# Altium footprint library Resistors THD.PcbLib: 108 footprints (part 7 of 7)
Each footprint in its own frame and in the unit in brackets; x right, y up, seen from the top. Pads: shape width x height; smd on the part's side, far side on the other; paste and mask are expansions set on the pad; w line width, h text height; cw(c..) or ccw(c..) is an arc to the next point about the centre after c.
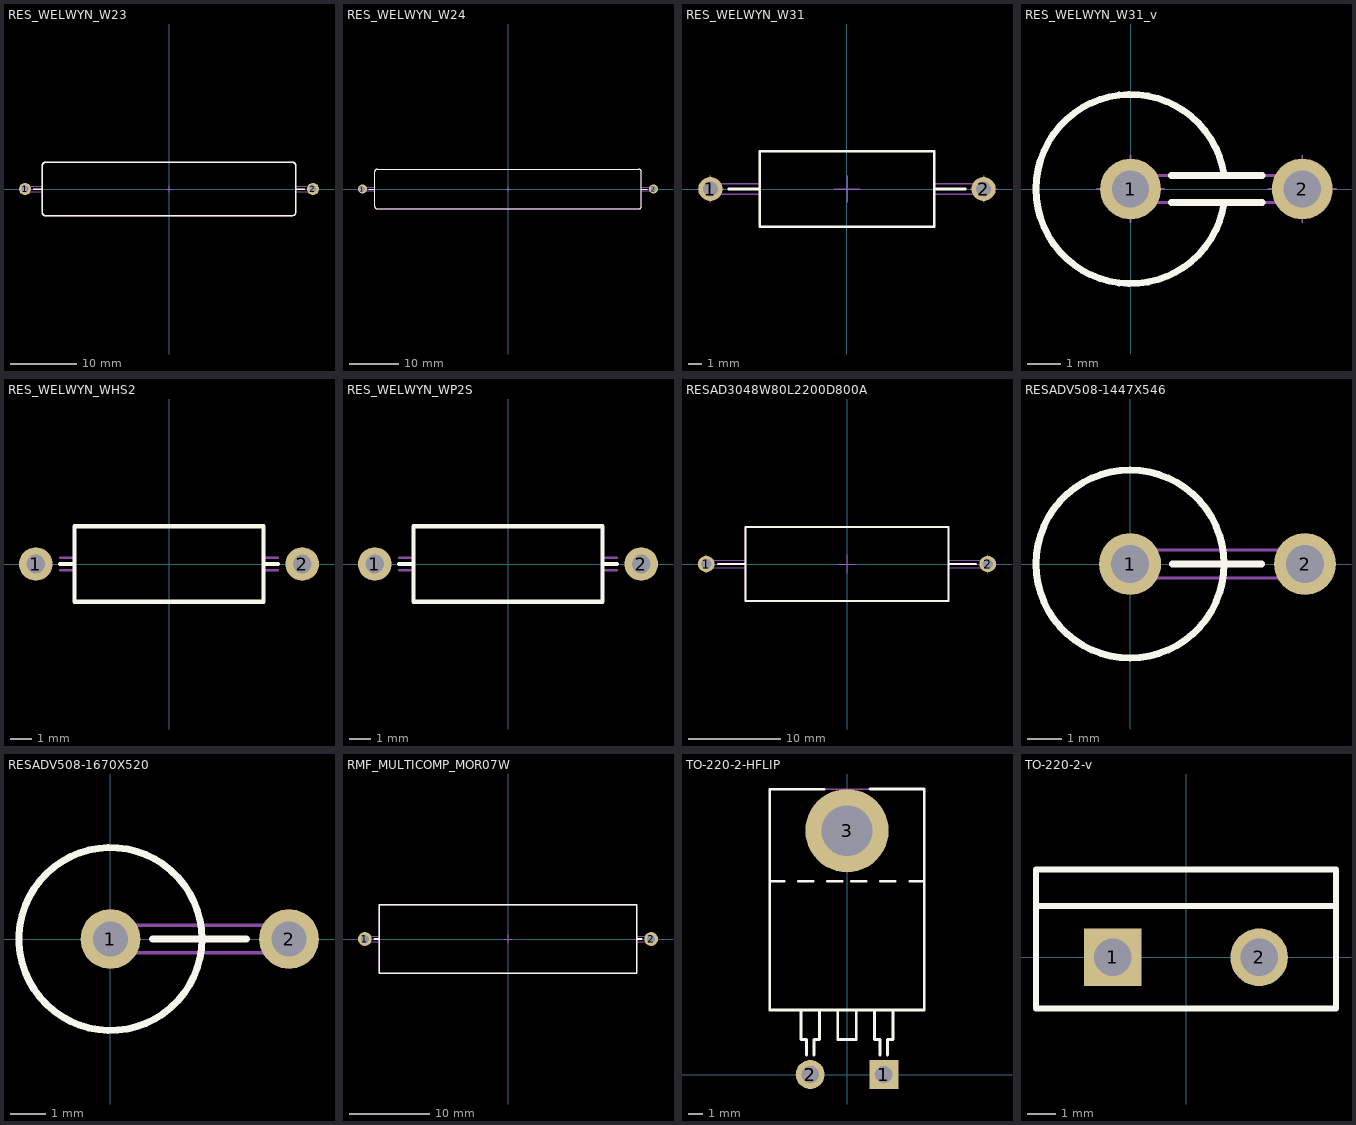
[diagram p6: the footprints below, top view; thin cyan lines are the x and y axes]

## RES_WELWYN_W23 [mm] "Resistor, Axial, Pad spacing 43.18mm - Body Lengh 38mm X Body Diameter 8mm"
height 8
pads (2):
  round 1.8 hole 1.1: 1(-21.59,0) 2(21.59,0)
Top Overlay:
  lines w0.2: -20.353,0 -19,0 ; 19,0 20.353,0 ; -19,-3.5 ccw(c-18.5,-3.5) -18.5,-4 18.5,-4 ccw(c18.5,-3.5) 19,-3.5 19,3.5 ccw(c18.5,3.5) 18.5,4 -18.5,4 ccw(c-18.5,3.5) -19,3.5 -19,-3.5
Mechanical 8:
  lines w0.1: -21.59,0 -21.59,0.5 -21.59,0 ; -21.59,0 -21.09,0 -21.59,0 ; -21.59,0 -21.59,-0.5 -21.59,0 ; -21.59,0 -22.09,0 -21.59,0 ; 0,0 0,0.5 0,0 ; 0,0 0.5,0 0,0 ; 0,0 0,-0.5 0,0 ; 0,0 -0.5,0 0,0 ; 21.59,0 21.59,0.5 21.59,0 ; 21.59,0 22.09,0 21.59,0 ; 21.59,0 21.59,-0.5 21.59,0 ; 21.59,0 21.09,0 21.59,0
Mechanical 14:
  lines w0.1: -19,-0.4 -21.59,-0.4 cw(c-21.59,0) -21.59,0.4 -19,0.4 ; 19,-0.4 21.59,-0.4 ccw(c21.59,0) 21.59,0.4 19,0.4 ; -19,-3.5 ccw(c-18.5,-3.5) -18.5,-4 18.5,-4 ccw(c18.5,-3.5) 19,-3.5 19,3.5 ccw(c18.5,3.5) 18.5,4 -18.5,4 ccw(c-18.5,3.5) -19,3.5 -19,-3.5
3D body "RES_WELWYN_W23.stp": height 8, standoff -3.6, extent -21.99,-4 21.99,4

## RES_WELWYN_W24 [mm] "Resistor, Axial, Pad spacing 58.42mm - Body Lengh 53.5mm X Body Diameter 8mm"
height 8
pads (2):
  round 1.8 hole 1.1: 1(-29.21,0) 2(29.21,0)
Top Overlay:
  lines w0.2: -27.973,0 -26.75,0 ; 26.75,0 27.973,0 ; -26.75,-3.5 ccw(c-26.25,-3.5) -26.25,-4 26.25,-4 ccw(c26.25,-3.5) 26.75,-3.5 26.75,3.5 ccw(c26.25,3.5) 26.25,4 -26.25,4 ccw(c-26.25,3.5) -26.75,3.5 -26.75,-3.5
Mechanical 8:
  lines w0.1: -29.21,0 -29.71,0 -29.21,0 ; -29.21,0 -29.21,-0.5 -29.21,0 ; -29.21,0 -28.71,0 -29.21,0 ; -29.21,0 -29.21,0.5 -29.21,0 ; 0,0 -0.5,0 0,0 ; 0,0 0,-0.5 0,0 ; 0,0 0.5,0 0,0 ; 0,0 0,0.5 0,0 ; 29.21,0 28.71,0 29.21,0 ; 29.21,0 29.21,-0.5 29.21,0 ; 29.21,0 29.71,0 29.21,0 ; 29.21,0 29.21,0.5 29.21,0
Mechanical 14:
  lines w0.1: -26.75,-0.4 -29.21,-0.4 cw(c-29.21,0) -29.21,0.4 -26.75,0.4 ; 26.75,-0.4 29.21,-0.4 ccw(c29.21,0) 29.21,0.4 26.75,0.4 ; -26.75,-3.5 ccw(c-26.25,-3.5) -26.25,-4 26.25,-4 ccw(c26.25,-3.5) 26.75,-3.5 26.75,3.5 ccw(c26.25,3.5) 26.25,4 -26.25,4 ccw(c-26.25,3.5) -26.75,3.5 -26.75,-3.5
3D body "RES_WELWYN_W24.stp": height 8, standoff -3.6, extent -29.61,-4 29.61,4

## RES_WELWYN_W31 [mm] "Resistor, Axial, Leads spacing 20.32mm, Lead Dia. 0.8, Body Lengh 13mm, Diameter 5.6mm"
height 5.6
pads (2):
  round 1.8 hole 1.1: 1(-10.16,0) 2(10.16,0)
Top Overlay:
  lines w0.2: -8.8,0 -6.5,0 ; 6.5,0 8.8,0 ; -6.5,-2.8 -6.5,2.8 6.5,2.8 6.5,-2.8 -6.5,-2.8
Mechanical 8:
  lines w0.1: -11.16,0 -10.16,0 ; -10.16,-1 -10.16,0 ; -10.16,1 -10.16,0 ; -9.16,0 -10.16,0 ; -1,0 0,0 ; 0,-1 0,0 ; 0,1 0,0 ; 1,0 0,0 ; 9.16,0 10.16,0 ; 10.16,-1 10.16,0 ; 10.16,1 10.16,0 ; 11.16,0 10.16,0
Mechanical 14:
  lines w0.1: -6.5,-0.4 -10.16,-0.4 cw(c-10.16,0) -10.16,0.4 -6.5,0.4 ; 6.5,-0.4 10.16,-0.4 ccw(c10.16,0) 10.16,0.4 6.5,0.4 ; -6.5,-2.8 -6.5,2.8 6.5,2.8 6.5,-2.8 -6.5,-2.8
3D body "RES_WELWYN_W31.stp": height 5.6, standoff -3.8, extent -10.59,-2.8 10.59,2.8

## RES_WELWYN_W31_v [mm] "Resistor, Axial, Leads spacing 5.08mm, Lead Dia. 0.8, Body Lengh 13mm, Diameter 5.6mm"
height 17.2
pads (2):
  round 1.8 hole 1.1: 1(0,0) 2(5.08,0)
Top Overlay:
  lines w0.2: 1.2,-0.4 3.9,-0.4 ; 1.2,0.4 3.9,0.4 ; 2.771,-0.4 cw(c0,0) 2.771,0.4
Mechanical 8:
  lines w0.05: -1,0 0,0 ; 0,-1 0,0 ; 0,1 0,0 ; 1,0 0,0 ; 4.08,0 5.08,0 ; 5.08,-1 5.08,0 ; 5.08,1 5.08,0 ; 6.08,0 5.08,0
Mechanical 14:
  lines w0.1: 2.771,-0.4 cw(c0,0) 2.771,0.4 ; 0,-0.4 cw(c0,0) 0,0.4 5.08,0.4 cw(c5.08,0) 5.08,-0.4 0,-0.4
3D body "RES_WELWYN_W31_v.stp": height 17.2, standoff -3.7, extent -2.8,-2.8 5.467,2.8

## RES_WELWYN_WHS2 [mm] "Resistor, Axial, Pad spacing 12.7 mm - Body Lengh 9mm X Body Diameter 3.6mm"
height 3.6
pads (2):
  round 1.6 hole 0.9: 1(-6.35,0) 2(6.35,0)
Top Overlay:
  lines w0.2: -5.2,0 -4.5,0 ; 4.5,0 5.2,0 ; -4.5,-1.8 4.5,-1.8 4.5,1.8 -4.5,1.8 -4.5,-1.8
Mechanical 14:
  lines w0.1: -5.2,-0.3 -4.5,-0.3 ; -5.2,0.3 -4.5,0.3 ; 4.5,-0.3 5.2,-0.3 ; 4.5,0.3 5.2,0.3 ; -4.5,-1.8 -4.5,1.8 4.5,1.8 4.5,-1.8 -4.5,-1.8
3D body "RES_WELWYN_WHS2.stp": height 3.6, standoff -3.6, extent -6.649,-1.8 6.65,1.8

## RES_WELWYN_WP2S [mm] "Resistor, Axial, Pad spacing 12.7 mm - Body Lengh 9mm X Body Diameter 3.6mm"
height 3.6
pads (2):
  round 1.6 hole 0.9: 1(-6.35,0) 2(6.35,0)
Top Overlay:
  lines w0.2: -5.2,0 -4.5,0 ; 4.5,0 5.2,0 ; -4.5,-1.8 4.5,-1.8 4.5,1.8 -4.5,1.8 -4.5,-1.8
Mechanical 14:
  lines w0.1: -5.2,-0.3 -4.5,-0.3 ; -5.2,0.3 -4.5,0.3 ; 4.5,-0.3 5.2,-0.3 ; 4.5,0.3 5.2,0.3 ; -4.5,-1.8 -4.5,1.8 4.5,1.8 4.5,-1.8 -4.5,-1.8
3D body "RES_WELWYN_WP2S.stp": height 3.6, standoff -3.6, extent -6.649,-1.8 6.65,1.8

## RESAD3048W80L2200D800A [mm] "Resistor, Axial, Leads spacing 30.48mm, Lead Dia. 0.8, Body Lengh 22mm, Diameter 8mm"
height 8
pads (2):
  round 1.8 hole 1.1: 1(-15.24,0) 2(15.24,0)
Top Overlay:
  lines w0.2: -14,0 -11,0 ; 11,0 14,0 ; -11,-4 -11,4 11,4 11,-4 -11,-4
Mechanical 8:
  lines w0.1: -16.24,0 -15.24,0 ; -15.24,-1 -15.24,0 ; -15.24,1 -15.24,0 ; -14.24,0 -15.24,0 ; -1,0 0,0 ; 0,-1 0,0 ; 0,1 0,0 ; 1,0 0,0 ; 14.24,0 15.24,0 ; 15.24,-1 15.24,0 ; 15.24,1 15.24,0 ; 16.24,0 15.24,0
Mechanical 14:
  lines w0.1: -11,-0.4 -15.24,-0.4 cw(c-15.24,0) -15.24,0.4 -11,0.4 ; 11,-0.4 15.24,-0.4 ccw(c15.24,0) 15.24,0.4 11,0.4 ; -11,-4 11,-4 11,4 -11,4 -11,-4
3D body "RESAD3048W80L2200D800A.stp": height 8, standoff -3.8, extent -15.64,-4 15.64,4

## RESADV508-1447X546 [mm] "Resistor, Axial, Vertical Mount, Pad spacing 5.08mm - Body Lengh 14.22mm X Body Diameter 17.2mm"
height 17.2
pads (2):
  round 1.8 hole 1.1: 1(0,0) 2(5.08,0)
Top Overlay:
  circle w0.2: c0,0 r2.73
  lines w0.2: 1.225,0 3.825,0
Mechanical 8:
  lines w0.1: -0.5,0 0,0 ; 0,-0.5 0,0 ; 0,0.5 0,0 ; 0.5,0 0,0 ; 4.58,0 5.08,0 ; 5.08,-0.5 5.08,0 ; 5.08,0.5 5.08,0 ; 5.58,0 5.08,0
Mechanical 14:
  lines w0.1: 2.7,-0.406 cw(c0,0) 2.7,0.407 ; 0,0.406 ccw(c0,0) 0.017,-0.406 5.08,-0.406 ccw(c5.08,0) 5.08,0.406 0,0.406
3D body "RESADV508-1447X546.stp": height 17.17, standoff -3.8, extent -2.73,-2.73 5.487,2.73

## RESADV508-1670X520 [mm] "Resistor, Axial, Vertical Mount, Lead spacing 5.08 mm - Body Lengh 16.7mm X Body Diameter 5.2mm"
height 23.6
pads (2):
  round 1.7 hole 1: 1(0,0) 2(5.08,0)
Top Overlay:
  circle w0.2: c0,0 r2.6
  lines w0.2: 1.2,0 3.875,0
Mechanical 8:
  lines w0.1: -0.5,0 0,0 ; 0,-0.5 0,0 ; 0,0.5 0,0 ; 0.5,0 0,0 ; 4.58,0 5.08,0 ; 5.08,-0.5 5.08,0 ; 5.08,0.5 5.08,0 ; 5.58,0 5.08,0
Mechanical 14:
  lines w0.1: 2.571,-0.39 cw(c0,0) 2.571,0.39 ; 0,-0.39 cw(c0,0) 0,0.39 5.08,0.39 cw(c5.08,0) 5.08,-0.39 0,-0.39
3D body "RESADV508-1670X520.stp": height 23.6, standoff -3.7, extent -2.6,-2.6 5.47,2.6

## RMF_MULTICOMP_MOR07W [mm] "Resistor, Axial, Leads Spacing 35.56mm, Lead Dia. 0.7, Body Lengh 32mm, Diameter 8.5mm"
height 8.5
pads (2):
  round 1.7 hole 1: 1(-17.78,0) 2(17.78,0)
Top Overlay:
  lines w0.2: -16.58,0 -16,0 ; 16,0 16.58,0 ; -16,-4.25 16,-4.25 16,4.25 -16,4.25 -16,-4.25
Mechanical 8:
  lines w0.1: -18.28,0 -17.78,0 ; -17.78,-0.5 -17.78,0 ; -17.78,0.5 -17.78,0 ; -17.28,0 -17.78,0 ; -0.5,0 0,0 ; 0,-0.5 0,0 ; 0,0.5 0,0 ; 0.5,0 0,0 ; 17.28,0 17.78,0 ; 17.78,-0.5 17.78,0 ; 17.78,0.5 17.78,0 ; 18.28,0 17.78,0
Mechanical 14:
  lines w0.1: -16,-0.35 -17.78,-0.35 cw(c-17.78,0) -17.78,0.35 -16,0.35 ; 16,-0.35 17.78,-0.35 ccw(c17.78,0) 17.78,0.35 16,0.35 ; -16,-4.25 16,-4.25 16,4.25 -16,4.25 -16,-4.25
3D body "RMF_MULTICOMP_MOR07W.stp": height 8.5, standoff -3.8, extent -18.13,-4.25 18.13,4.25

## TO-220-2-HFLIP [mm] "TO-220 2-Terminal + Tab - Flipped Horizontal Mount"
height 4.7
pads (3):
  rect 2x2 hole 1.2: 1(2.54,0)
  round 2 hole 1.2: 2(-2.54,0)
  round 5.75 hole 3.5: 3(0,16.828)
Top Overlay:
  lines w0.2: -5.334,13.335 -4.334,13.335 ; -3.334,13.335 -2.334,13.335 ; -3.175,4.445 -3.175,2.413 -2.794,2.413 -2.794,1.35 ; -2.286,1.35 -2.286,2.413 -1.905,2.413 -1.905,4.445 ; -1.6,19.685 -5.334,19.685 -5.334,4.445 5.334,4.445 5.334,19.685 5.319,19.7 1.6,19.7 ; -1.334,13.335 -0.334,13.335 ; -0.635,4.445 -0.635,2.413 0.635,2.413 0.635,4.445 ; 0.3,13.335 1.3,13.335 ; 1.905,4.445 1.905,2.413 2.286,2.413 2.286,1.35 ; 2.3,13.335 3.3,13.335 ; 2.794,1.35 2.794,2.413 3.175,2.413 3.175,4.445 ; 4.334,13.335 5.334,13.335
Mechanical 14:
  circle w0.1: c0,16.828 r2
  lines w0.1: -5.334,13.335 -4.334,13.335 ; -3.334,13.335 -2.334,13.335 ; -3.175,4.445 -3.175,2.413 -2.794,2.413 -2.794,1.27 ; -2.286,1.27 -2.286,2.413 -1.905,2.413 -1.905,4.445 ; -1.334,13.335 -0.334,13.335 ; -0.635,4.445 -0.635,2.413 0.635,2.413 0.635,4.445 ; 0.3,13.335 1.3,13.335 ; 1.905,4.445 1.905,2.413 2.286,2.413 2.286,1.27 ; 2.3,13.335 3.3,13.335 ; 2.794,1.27 2.794,2.413 3.175,2.413 3.175,4.445 ; 4.334,13.335 5.334,13.335 ; -5.334,4.445 -5.334,19.685 5.334,19.685 5.334,4.445 -5.334,4.445
3D body "TO-220-2-HFLIP.stp": height 4.7, standoff -4.7, extent -5.27,-0.28 5.27,19.49

## TO-220-2-v [mm] "TO-220 2-Terminal - Vertical Mount"
height 22.86
pads (2):
  rect 2x2 hole 1.3: 1(-2.54,0)
  round 2 hole 1.3: 2(2.54,0)
Top Overlay:
  lines w0.2: -5.207,1.778 5.207,1.778 ; -5.207,-1.778 5.207,-1.778 5.207,3.048 -5.207,3.048 -5.207,-1.778
Mechanical 14:
  lines w0.1: -5.207,1.778 5.207,1.778 ; -5.207,-1.778 5.207,-1.778 5.207,3.048 -5.207,3.048 -5.207,-1.778
3D body "TO-220-2-V.stp": height 20.5, standoff -3.5, extent -5.27,-1.75 5.27,2.95